# Altium footprint library Espressif.PcbLib: 2 footprints
Each footprint in its own frame and in the unit in brackets; x right, y up, seen from the top. Pads: shape width x height; smd on the part's side, far side on the other; paste and mask are expansions set on the pad; w line width, h text height; cw(c..) or ccw(c..) is an arc to the next point about the centre after c.
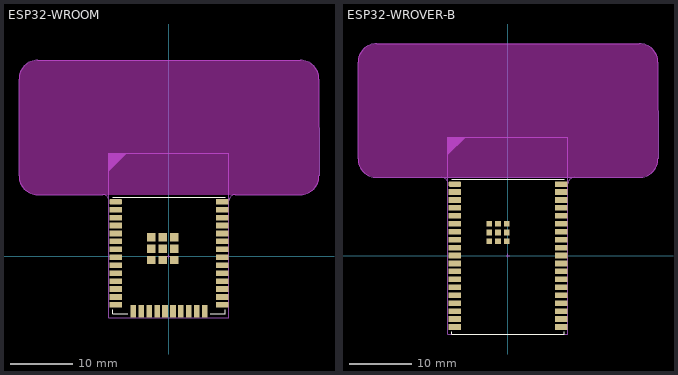
[diagram p0: the footprints below, top view; thin cyan lines are the x and y axes]

## ESP32-WROOM [mm]
pads (47):
  rrect50% 2x0.9 smd: 1(-8.5,8.755)
  rect 2x0.9 smd: 2(-8.5,7.485) 3(-8.5,6.215) 4(-8.5,4.945) 5(-8.5,3.675) 6(-8.5,2.405) 7(-8.5,1.135) 8(-8.5,-0.135) 9(-8.5,-1.405) 10(-8.5,-2.675) 11(-8.5,-3.945) 12(-8.5,-5.215) 13(-8.5,-6.485) 14(-8.5,-7.755) 25(8.5,-7.755) 26(8.5,-6.485) 27(8.5,-5.215) 28(8.5,-3.945) 29(8.5,-2.675) 30(8.5,-1.405) 31(8.5,-0.135) 32(8.5,1.135) 33(8.5,2.405) 34(8.5,3.675) 35(8.5,4.945) 36(8.5,6.215) 37(8.5,7.485) 38(8.5,8.755)
  rect 0.9x2 smd: 15(-5.715,-8.755) 16(-4.445,-8.755) 17(-3.175,-8.755) 18(-1.905,-8.755) 19(-0.635,-8.755) 20(0.635,-8.755) 21(1.905,-8.755) 22(3.175,-8.755) 23(4.445,-8.755) 24(5.715,-8.755)
  rect 1.33x1.33 smd: TP(-2.835,-0.58) TP(-2.835,1.255) TP(-2.835,3.09) TP(-1,-0.58) TP(-1,1.255) TP(-1,3.09) TP(0.835,-0.58) TP(0.835,1.255) TP(0.835,3.09)
Top Overlay:
  lines w0.127: -9,-8.5 -9,-9.2 -6.6,-9.2 ; 6.6,-9.2 9,-9.2 9,-8.5
  lines w0.153: -9,9.5 9,9.5
Keep-Out Layer:
  board cut-out: -21,9.86 -21.197,9.86 -21.587,9.911 -21.966,10.013 -22.33,10.164 -22.67,10.36 -22.982,10.6 -23.26,10.878 -23.5,11.19 -23.696,11.53 -23.847,11.894 -23.949,12.273 -24,12.663 -24,12.86 -24,28.36 -24,28.557 -23.949,28.947 -23.847,29.326 -23.696,29.69 -23.5,30.03 -23.26,30.342 -22.982,30.62 -22.67,30.86 -22.33,31.056 -21.966,31.207 -21.587,31.309 -21.197,31.36 -21,31.36 21,31.36 21.197,31.36 21.587,31.309 21.966,31.207 22.33,31.056 22.67,30.86 22.982,30.62 23.26,30.342 23.5,30.03 23.696,29.69 23.847,29.326 23.949,28.947 24,28.557 24,28.36 24,12.86 24,12.663 23.949,12.273 23.847,11.894 23.696,11.53 23.5,11.19 23.26,10.878 22.982,10.6 22.67,10.36 22.33,10.164 21.966,10.013 21.587,9.911 21.197,9.86 21,9.86
Keep-Out Layer:
  region: 21.2,9.86 -21,9.86 -21,31.36 21.2,31.36
Top Assembly:
  region: -9.6,16.495 -6.765,16.495 -9.6,13.66
  lines w0.1: -9.6,-9.805 9.6,-9.805 9.6,16.495 -9.6,16.495 -9.6,-9.805
  text "ANTENNA" at -5.925,12.495 h1.78
  text "'.Designator'" at -4.532,-0.333 h0.8
Top Courtyard:
  lines w0.153: -24,12.89 ccw(c-21,12.89) -21,9.89 -10.6,9.89 cw(c-10.6,8.89) -9.6,8.89 -9.6,-9.8 9.6,-9.8 9.6,8.89 cw(c10.6,8.89) 10.6,9.89 21,9.89 ccw(c21,12.89) 24,12.89 24,28.39 ccw(c21,28.39) 21,31.39 -21,31.39 ccw(c-21,28.39) -24,28.39 -24,12.89 ; -0.3,0 0.3,0 -0.3,0 ; 0,-0.3 0,0.3 0,-0.3
3D body "step_temp.STEP": height 3.2, standoff 0, extent -9,-9.255 9,16.245

## ESP32-WROVER-B [mm]
pads (47):
  rrect50% 2x0.9 smd: 1(-8.5,11.43)
  rect 2x0.9 smd: 2(-8.5,10.16) 3(-8.5,8.89) 4(-8.5,7.62) 5(-8.5,6.35) 6(-8.5,5.08) 7(-8.5,3.81) 8(-8.5,2.54) 9(-8.5,1.27) 10(-8.5,0) 11(-8.5,-1.27) 12(-8.5,-2.54) 13(-8.5,-3.81) 14(-8.5,-5.08) 15(-8.5,-6.35) 16(-8.5,-7.62) 17(-8.5,-8.89) 18(-8.5,-10.16) 19(-8.5,-11.43) 20(8.5,-11.43) 21(8.5,-10.16) 22(8.5,-8.89) 23(8.5,-7.62) 24(8.5,-6.35) 25(8.5,-5.08) 26(8.5,-3.81) 27(8.5,-2.54) 28(8.5,-1.27) 29(8.5,0) 30(8.5,1.27) 31(8.5,2.54) 32(8.5,3.81) 33(8.5,5.08) 34(8.5,6.35) 35(8.5,7.62) 36(8.5,8.89) 37(8.5,10.16) 38(8.5,11.43)
  rect 0.9x0.9 smd: TP(-3,2.295) TP(-3,3.695) TP(-3,5.095) TP(-1.6,2.295) TP(-1.6,3.695) TP(-1.6,5.095) TP(-0.2,2.295) TP(-0.2,3.695) TP(-0.2,5.095)
Top Overlay:
  lines w0.153: -9,-12.2 -9,-12.6 9,-12.6 9,-12.2 ; -9,12.2 9,12.2
Keep-Out Layer:
  board cut-out: -24,15.5 -24,30.9 -24,31.097 -23.949,31.487 -23.847,31.866 -23.696,32.23 -23.5,32.57 -23.26,32.882 -22.982,33.16 -22.67,33.4 -22.33,33.596 -21.966,33.747 -21.587,33.849 -21.197,33.9 -21,33.9 21,33.9 21.197,33.9 21.587,33.849 21.966,33.747 22.33,33.596 22.67,33.4 22.982,33.16 23.26,32.882 23.5,32.57 23.696,32.23 23.847,31.866 23.949,31.487 24,31.097 24,30.9 24,15.5 24,15.303 23.949,14.913 23.847,14.534 23.696,14.17 23.5,13.83 23.26,13.518 22.982,13.24 22.67,13 22.33,12.804 21.966,12.653 21.587,12.551 21.197,12.5 21,12.5 -21,12.5 -21.197,12.5 -21.587,12.551 -21.966,12.653 -22.33,12.804 -22.67,13 -22.982,13.24 -23.26,13.518 -23.5,13.83 -23.696,14.17 -23.847,14.534 -23.949,14.913 -24,15.303
Keep-Out Layer:
  region: 21.2,12.5 -21,12.5 -21,33.9 21.2,33.9
Mechanical 1:
  lines w0.1: -24,15.5 ccw(c-21,15.5) -21,12.5 21,12.5 ccw(c21,15.5) 24,15.5 24,30.9 ccw(c21,30.9) 21,33.9 -21,33.9 ccw(c-21,30.9) -24,30.9 -24,15.5
Top Assembly:
  region: -9.6,18.935 -6.765,18.935 -9.6,16.1
  lines w0.1: -9.6,-12.6 9.6,-12.6 9.6,18.935 -9.6,18.935 -9.6,-12.6
  text "ANTENNA" at -5.925,14.495 h1.78
  text "'.Designator'" at -4.532,-0.333 h0.8
Top Courtyard:
  lines w0.153: 9.6,11.5 cw(c10.6,11.5) 10.6,12.5 21,12.5 ccw(c21,15.5) 24,15.5 24,30.9 ccw(c21,30.9) 21,33.9 -21,33.9 ccw(c-21,30.9) -24,30.9 -24,15.5 ccw(c-21,15.5) -21,12.5 -10.6,12.5 cw(c-10.6,11.5) -9.6,11.5 -9.6,-12.6 9.6,-12.6 9.6,11.535 ; -0.3,0 0.3,0 -0.3,0 ; 0,-0.3 0,0.3 0,-0.3
3D body "ESP32-WROVER-B (16MB)--3DModel-STEP-1.STEP": height 3.4, standoff 0, extent -9,-12.55 9,18.85